# EAGLE library part SIA817EDJ-T1-GE3 (library MOSFECTS_ACTIVE14)
MOSFET P-CH 30V 4.5A SC-70-6 Schottky
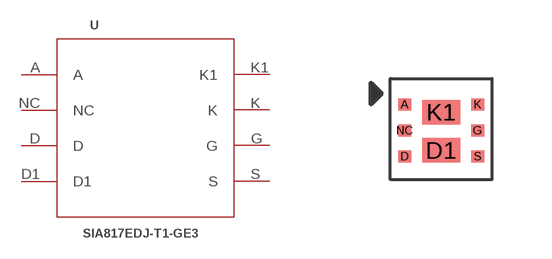
[diagram p0: symbol with the pads of SC70-6L_P_MOSFET; footprint SC70-6L_P_MOSFET]

Designator prefix -

## SIA817EDJ-T1-GE3  [SC70-6L_P_MOSFET]
A  A
D  D
D1  D1
G  G
K  K
K1  K1
NC  NC
S  S

## Footprint SC70-6L_P_MOSFET (pad centres in mm)
PowerPAK® SC-70-6 Dual
smd 0.325 x 0.3: A -0.914,0.66; D -0.914,-0.64; G 0.911,0.01; K 0.911,0.66; NC -0.914,0.01; S 0.911,-0.64
smd 0.95 x 0.613: D1 -0.002,-0.482; K1 -0.002,0.475